# Altium integrated library FPGA.IntLib: 8 symbols (part 2 of 2)
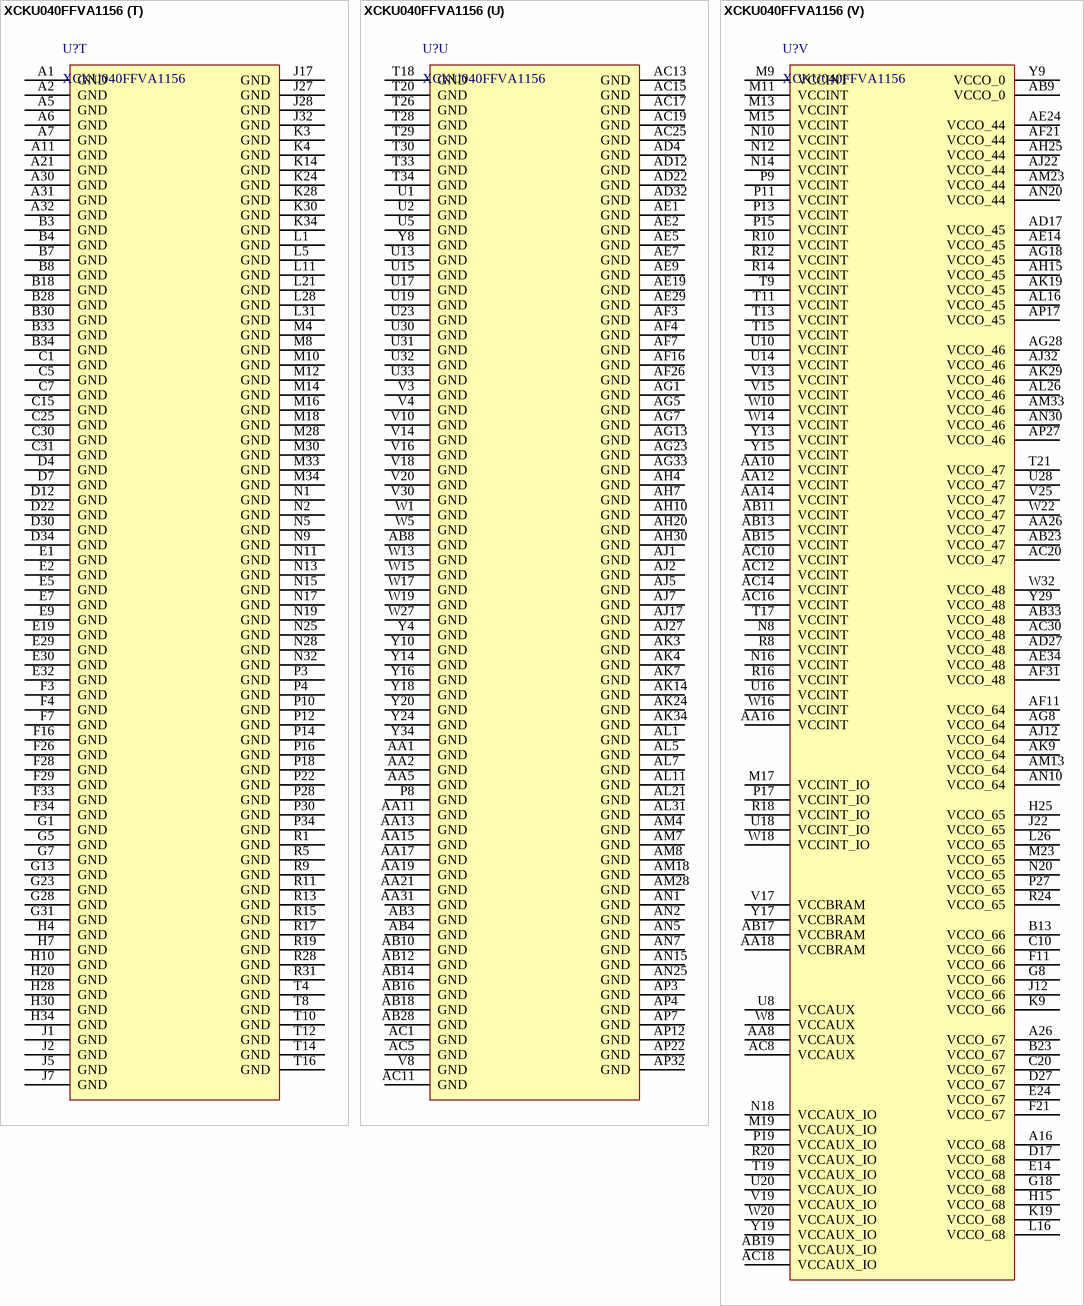
[diagram p17: symbol XCKU040FFVA1156]

## XCKU040FFVA1156
designator U?
footprint FBGA-FFVA1156_L35.0-W35.0-R34-C34-P1.00-TL
part A pins: AA7 D02_0, AA9 CCLK_0, AB7 D01_DIN_0, AC7 D00_MOSI_0, AC9 TCK_0, AD7 VBATT, K7 M0_0, L7 M1_0, M7 M2_0, N7 DONE_0, P7 POR_OVERRIDE, R7 PUDC_B_0, T7 PROGRAM_B_0, U7 RDWR_FCS_B_0, U9 TDO_0, U11 GNDADC, U12 VCCADC, V7 INIT_B_0, V9 TDI_0, V11 VREFN, V12 VP, W7 CFGBVS_0, W9 TMS_0, W11 VN, W12 VREFP, Y7 D03_0, Y11 DXN, Y12 DXP
part B pins: AD20 IO_L3P_T0L_N4_AD15P_44, AD21 IO_L1P_T0L_N0_DBC_44, AD23 VREF_44, AD24 IO_T0U_N12_VRP_44, AE20 IO_L3N_T0L_N5_AD15N_44, AE21 IO_L1N_T0L_N1_DBC_44, AE22 IO_L5P_T0U_N8_AD14P_44, AE23 IO_L5N_T0U_N9_AD14N_44, AE25 IO_L7P_T1L_N0_QBC_AD13P_44, AE26 IO_L7N_T1L_N1_QBC_AD13N_44, AF20 IO_L2P_T0L_N2_44, AF22 IO_L6P_T0U_N10_AD6P_44, AF23 IO_L8P_T1L_N2_AD5P_44, AF24 IO_L8N_T1L_N3_AD5N_44, AF25 IO_T1U_N12_44, AG20 IO_L2N_T0L_N3_44, AG21 IO_L4P_T0U_N6_DBC_AD7P_44, AG22 IO_L6N_T0U_N11_AD6N_44, AG24 IO_L9P_T1L_N4_AD12P_44, AG25 IO_L9N_T1L_N5_AD12N_44, AH21 IO_L4N_T0U_N7_DBC_AD7N_44, AH22 IO_L12P_T1U_N10_GC_44, AH23 IO_L12N_T1U_N11_GC_44, AH24 IO_L10P_T1U_N6_QBC_AD4P_44, AJ20 IO_L16P_T2U_N6_QBC_AD3P_44, AJ21 IO_L13P_T2L_N0_GC_QBC_44, AJ23 IO_L11P_T1U_N8_GC_44, AJ24 IO_L11N_T1U_N9_GC_44, AJ25 IO_L10N_T1U_N7_QBC_AD4N_44, AK20 IO_L16N_T2U_N7_QBC_AD3N_44, AK21 IO_L13N_T2L_N1_GC_QBC_44, AK22 IO_L14P_T2L_N2_GC_44, AK23 IO_L14N_T2L_N3_GC_44, AK25 IO_T2U_N12_44, AL20 IO_L15P_T2L_N4_AD11P_44, AL22 IO_L17P_T2U_N8_AD10P_44, AL23 IO_L17N_T2U_N9_AD10N_44, AL24 IO_L18P_T2U_N10_AD2P_44, AL25 IO_L18N_T2U_N11_AD2N_44, AM20 IO_L15N_T2L_N5_AD11N_44, AM21 IO_L19P_T3L_N0_DBC_AD9P_44, AM22 IO_L20P_T3L_N2_AD1P_44, AM24 IO_L21P_T3L_N4_AD8P_44, AM25 IO_T3U_N12_44, AN21 IO_L19N_T3L_N1_DBC_AD9N_44, AN22 IO_L20N_T3L_N3_AD1N_44, AN23 IO_L24P_T3U_N10_44, AN24 IO_L21N_T3L_N5_AD8N_44, AP20 IO_L22P_T3U_N6_DBC_AD0P_44, AP21 IO_L22N_T3U_N7_DBC_AD0N_44, AP23 IO_L24N_T3U_N11_44, AP24 IO_L23P_T3U_N8_44, AP25 IO_L23N_T3U_N9_44
part C pins: AD14 IO_T3U_N12_45, AD15 IO_L24N_T3U_N11_45, AD16 IO_L24P_T3U_N10_45, AD18 IO_L19N_T3L_N1_DBC_AD9N_45, AD19 IO_L19P_T3L_N0_DBC_AD9P_45, AE15 IO_L22N_T3U_N7_DBC_AD0N_45, AE16 IO_L22P_T3U_N6_DBC_AD0P_45, AE17 IO_L23P_T3U_N8_45, AE18 IO_L21P_T3L_N4_AD8P_45, AF14 IO_L20N_T3L_N3_AD1N_45, AF15 IO_L20P_T3L_N2_AD1P_45, AF17 IO_L23N_T3U_N9_45, AF18 IO_L21N_T3L_N5_AD8N_45, AF19 VREF_45, AG14 IO_L18N_T2U_N11_AD2N_45, AG15 IO_L18P_T2U_N10_AD2P_45, AG16 IO_L15N_T2L_N5_AD11N_45, AG17 IO_L15P_T2L_N4_AD11P_45, AG19 IO_L17P_T2U_N8_AD10P_45, AH14 IO_T2U_N12_45, AH16 IO_L14P_T2L_N2_GC_45, AH17 IO_L13N_T2L_N1_GC_QBC_45, AH18 IO_L13P_T2L_N0_GC_QBC_45, AH19 IO_L17N_T2U_N9_AD10N_45, AJ14 IO_L16N_T2U_N7_QBC_AD3N_45, AJ15 IO_L16P_T2U_N6_QBC_AD3P_45, AJ16 IO_L14N_T2L_N3_GC_45, AJ18 IO_L11P_T1U_N8_GC_45, AJ19 IO_T1U_N12_45, AK15 IO_L9P_T1L_N4_AD12P_45, AK16 IO_L12N_T1U_N11_GC_45, AK17 IO_L12P_T1U_N10_GC_45, AK18 IO_L11N_T1U_N9_GC_45, AL14 IO_L7P_T1L_N0_QBC_AD13P_45, AL15 IO_L9N_T1L_N5_AD12N_45, AL17 IO_L10N_T1U_N7_QBC_AD4N_45, AL18 IO_L10P_T1U_N6_QBC_AD4P_45, AL19 IO_L8P_T1L_N2_AD5P_45, AM14 IO_L7N_T1L_N1_QBC_AD13N_45, AM15 IO_L5N_T0U_N9_AD14N_45, AM16 IO_L5P_T0U_N8_AD14P_45, AM17 IO_L3P_T0L_N4_AD15P_45, AM19 IO_L8N_T1L_N3_AD5N_45, AN14 IO_L1P_T0L_N0_DBC_45, AN16 IO_L3N_T0L_N5_AD15N_45, AN17 IO_L4N_T0U_N7_DBC_AD7N_45, AN18 IO_L4P_T0U_N6_DBC_AD7P_45, AN19 IO_L2P_T0L_N2_45, AP14 IO_L1N_T0L_N1_DBC_45, AP15 IO_L6N_T0U_N11_AD6N_45, AP16 IO_L6P_T0U_N10_AD6P_45, AP18 IO_L2N_T0L_N3_45, AP19 IO_T0U_N12_VRP_45
part D pins: AG26 IO_T0U_N12_VRP_46, AG27 VREF_46, AH26 IO_L1P_T0L_N0_DBC_46, AH27 IO_L5P_T0U_N8_AD14P_46, AH28 IO_L5N_T0U_N9_AD14N_46, AH29 IO_T2U_N12_46, AH31 IO_L17P_T2U_N8_AD10P_46, AH32 IO_L17N_T2U_N9_AD10N_46, AH33 IO_L16P_T2U_N6_QBC_AD3P_46, AH34 IO_L18P_T2U_N10_AD2P_46, AJ26 IO_L1N_T0L_N1_DBC_46, AJ28 IO_L6P_T0U_N10_AD6P_46, AJ29 IO_L13P_T2L_N0_GC_QBC_46, AJ30 IO_L15P_T2L_N4_AD11P_46, AJ31 IO_L15N_T2L_N5_AD11N_46, AJ33 IO_L16N_T2U_N7_QBC_AD3N_46, AJ34 IO_L18N_T2U_N11_AD2N_46, AK26 IO_L3P_T0L_N4_AD15P_46, AK27 IO_L3N_T0L_N5_AD15N_46, AK28 IO_L6N_T0U_N11_AD6N_46, AK30 IO_L13N_T2L_N1_GC_QBC_46, AK31 IO_L14P_T2L_N2_GC_46, AK32 IO_L14N_T2L_N3_GC_46, AK33 IO_T3U_N12_46, AL27 IO_L4P_T0U_N6_DBC_AD7P_46, AL28 IO_L4N_T0U_N7_DBC_AD7N_46, AL29 IO_L11P_T1U_N8_GC_46, AL30 IO_L12P_T1U_N10_GC_46, AL32 IO_L19P_T3L_N0_DBC_AD9P_46, AL33 IO_L19N_T3L_N1_DBC_AD9N_46, AL34 IO_L24P_T3U_N10_46, AM26 IO_L2P_T0L_N2_46, AM27 IO_L2N_T0L_N3_46, AM29 IO_L11N_T1U_N9_GC_46, AM30 IO_L12N_T1U_N11_GC_46, AM31 IO_T1U_N12_46, AM32 IO_L23P_T3U_N8_46, AM34 IO_L24N_T3U_N11_46, AN26 IO_L7P_T1L_N0_QBC_AD13P_46, AN27 IO_L9P_T1L_N4_AD12P_46, AN28 IO_L9N_T1L_N5_AD12N_46, AN29 IO_L10P_T1U_N6_QBC_AD4P_46, AN31 IO_L21P_T3L_N4_AD8P_46, AN32 IO_L23N_T3U_N9_46, AN33 IO_L20P_T3L_N2_AD1P_46, AN34 IO_L22P_T3U_N6_DBC_AD0P_46, AP26 IO_L7N_T1L_N1_QBC_AD13N_46, AP28 IO_L8P_T1L_N2_AD5P_46, AP29 IO_L8N_T1L_N3_AD5N_46, AP30 IO_L10N_T1U_N7_QBC_AD4N_46, AP31 IO_L21N_T3L_N5_AD8N_46, AP33 IO_L20N_T3L_N3_AD1N_46, AP34 IO_L22N_T3U_N7_DBC_AD0N_46
part E pins: AA20 IO_L9P_T1L_N4_AD12P_47, AA22 IO_L7P_T1L_N0_QBC_AD13P_47, AA23 IO_L11N_T1U_N9_GC_47, AA24 IO_L12P_T1U_N10_GC_47, AA25 IO_L12N_T1U_N11_GC_47, AA27 IO_L5P_T0U_N8_AD14P_47, AA28 IO_T0U_N12_VRP_47, AB20 IO_L9N_T1L_N5_AD12N_47, AB21 IO_L10P_T1U_N6_QBC_AD4P_47, AB22 IO_L7N_T1L_N1_QBC_AD13N_47, AB24 IO_L3P_T0L_N4_AD15P_47, AB25 IO_L6P_T0U_N10_AD6P_47, AB26 IO_L6N_T0U_N11_AD6N_47, AB27 IO_L5N_T0U_N9_AD14N_47, AC21 IO_L10N_T1U_N7_QBC_AD4N_47, AC22 IO_L8P_T1L_N2_AD5P_47, AC23 IO_L8N_T1L_N3_AD5N_47, AC24 IO_L3N_T0L_N5_AD15N_47, AC26 IO_L4P_T0U_N6_DBC_AD7P_47, AC27 IO_L4N_T0U_N7_DBC_AD7N_47, AD25 IO_L2P_T0L_N2_47, AD26 IO_L2N_T0L_N3_47, T22 IO_L17P_T2U_N8_AD10P_47, T23 IO_L17N_T2U_N9_AD10N_47, U21 IO_L15P_T2L_N4_AD11P_47, U22 IO_L15N_T2L_N5_AD11N_47, U24 IO_L20P_T3L_N2_AD1P_47, U25 IO_L20N_T3L_N3_AD1N_47, U26 IO_L22P_T3U_N6_DBC_AD0P_47, U27 IO_L22N_T3U_N7_DBC_AD0N_47, U29 IO_T3U_N12_47, V21 IO_L18P_T2U_N10_AD2P_47, V22 IO_L16P_T2U_N6_QBC_AD3P_47, V23 IO_L16N_T2U_N7_QBC_AD3N_47, V24 VREF_47, V26 IO_L24P_T3U_N10_47, V27 IO_L19P_T3L_N0_DBC_AD9P_47, V28 IO_L19N_T3L_N1_DBC_AD9N_47, V29 IO_L23P_T3U_N8_47, W21 IO_L18N_T2U_N11_AD2N_47, W23 IO_L13P_T2L_N0_GC_QBC_47, W24 IO_L13N_T2L_N1_GC_QBC_47, W25 IO_L14P_T2L_N2_GC_47, W26 IO_L24N_T3U_N11_47, W28 IO_L21P_T3L_N4_AD8P_47, W29 IO_L23N_T3U_N9_47, Y21 IO_T2U_N12_47, Y22 IO_T1U_N12_47, Y23 IO_L11P_T1U_N8_GC_47, Y25 IO_L14N_T2L_N3_GC_47, Y26 IO_L1P_T0L_N0_DBC_47, Y27 IO_L1N_T0L_N1_DBC_47, Y28 IO_L21N_T3L_N5_AD8N_47
part F pins: AA29 IO_L16P_T2U_N6_QBC_AD3P_48, AA30 VREF_48, AA32 IO_L13P_T2L_N0_GC_QBC_48, AA33 IO_T2U_N12_48, AA34 IO_L17P_T2U_N8_AD10P_48, AB29 IO_L16N_T2U_N7_QBC_AD3N_48, AB30 IO_L14P_T2L_N2_GC_48, AB31 IO_L14N_T2L_N3_GC_48, AB32 IO_L13N_T2L_N1_GC_QBC_48, AB34 IO_L17N_T2U_N9_AD10N_48, AC28 IO_L3P_T0L_N4_AD15P_48, AC29 IO_T0U_N12_VRP_48, AC31 IO_L12P_T1U_N10_GC_48, AC32 IO_L12N_T1U_N11_GC_48, AC33 IO_L18P_T2U_N10_AD2P_48, AC34 IO_L15P_T2L_N4_AD11P_48, AD28 IO_L3N_T0L_N5_AD15N_48, AD29 IO_L5P_T0U_N8_AD14P_48, AD30 IO_L11P_T1U_N8_GC_48, AD31 IO_L11N_T1U_N9_GC_48, AD33 IO_L18N_T2U_N11_AD2N_48, AD34 IO_L15N_T2L_N5_AD11N_48, AE27 IO_L1P_T0L_N0_DBC_48, AE28 IO_L2P_T0L_N2_48, AE30 IO_L5N_T0U_N9_AD14N_48, AE31 IO_T1U_N12_48, AE32 IO_L9P_T1L_N4_AD12P_48, AE33 IO_L10P_T1U_N6_QBC_AD4P_48, AF27 IO_L1N_T0L_N1_DBC_48, AF28 IO_L2N_T0L_N3_48, AF29 IO_L4P_T0U_N6_DBC_AD7P_48, AF30 IO_L6P_T0U_N10_AD6P_48, AF32 IO_L9N_T1L_N5_AD12N_48, AF33 IO_L8P_T1L_N2_AD5P_48, AF34 IO_L10N_T1U_N7_QBC_AD4N_48, AG29 IO_L4N_T0U_N7_DBC_AD7N_48, AG30 IO_L6N_T0U_N11_AD6N_48, AG31 IO_L7P_T1L_N0_QBC_AD13P_48, AG32 IO_L7N_T1L_N1_QBC_AD13N_48, AG34 IO_L8N_T1L_N3_AD5N_48, U34 IO_L23P_T3U_N8_48, V31 IO_L24P_T3U_N10_48, V32 IO_T3U_N12_48, V33 IO_L21P_T3L_N4_AD8P_48, V34 IO_L23N_T3U_N9_48, W30 IO_L20P_T3L_N2_AD1P_48, W31 IO_L24N_T3U_N11_48, W33 IO_L19P_T3L_N0_DBC_AD9P_48, W34 IO_L21N_T3L_N5_AD8N_48, Y30 IO_L20N_T3L_N3_AD1N_48, Y31 IO_L22P_T3U_N6_DBC_AD0P_48, Y32 IO_L22N_T3U_N7_DBC_AD0N_48, Y33 IO_L19N_T3L_N1_DBC_AD9N_48
part G pins: A8 IO_T0U_N12_VRP_66, A9 IO_L2N_T0L_N3_66, A10 IO_L4N_T0U_N7_DBC_AD7N_66, A12 IO_L23N_T3U_N9_66, A13 IO_L23P_T3U_N8_66, B9 IO_L2P_T0L_N2_66, B10 IO_L4P_T0U_N6_DBC_AD7P_66, B11 IO_L21N_T3L_N5_AD8N_66, B12 IO_L20N_T3L_N3_AD1N_66, C8 IO_L3N_T0L_N5_AD15N_66, C9 IO_L5N_T0U_N9_AD14N_66, C11 IO_L21P_T3L_N4_AD8P_66, C12 IO_L20P_T3L_N2_AD1P_66, C13 IO_L24N_T3U_N11_66, D8 IO_L3P_T0L_N4_AD15P_66, D9 IO_L5P_T0U_N8_AD14P_66, D10 IO_L6N_T0U_N11_AD6N_66, D11 IO_L19N_T3L_N1_DBC_AD9N_66, D13 IO_L24P_T3U_N10_66, E8 IO_L1N_T0L_N1_DBC_66, E10 IO_L6P_T0U_N10_AD6P_66, E11 IO_L19P_T3L_N0_DBC_AD9P_66, E12 IO_T3U_N12_66, E13 IO_L22N_T3U_N7_DBC_AD0N_66, F8 IO_L1P_T0L_N0_DBC_66, F9 IO_L11N_T1U_N9_GC_66, F10 IO_L12N_T1U_N11_GC_66, F12 IO_T2U_N12_66, F13 IO_L22P_T3U_N6_DBC_AD0P_66, G9 IO_L11P_T1U_N8_GC_66, G10 IO_L12P_T1U_N10_GC_66, G11 IO_L13N_T2L_N1_GC_QBC_66, G12 IO_L14N_T2L_N3_GC_66, H8 IO_L9N_T1L_N5_AD12N_66, H9 IO_L8N_T1L_N3_AD5N_66, H11 IO_L13P_T2L_N0_GC_QBC_66, H12 IO_L14P_T2L_N2_GC_66, H13 IO_L18N_T2U_N11_AD2N_66, J8 IO_L9P_T1L_N4_AD12P_66, J9 IO_L8P_T1L_N2_AD5P_66, J10 IO_L10N_T1U_N7_QBC_AD4N_66, J11 IO_L15N_T2L_N5_AD11N_66, J13 IO_L18P_T2U_N10_AD2P_66, K8 IO_L7N_T1L_N1_QBC_AD13N_66, K10 IO_L10P_T1U_N6_QBC_AD4P_66, K11 IO_L15P_T2L_N4_AD11P_66, K12 IO_L17N_T2U_N9_AD10N_66, K13 IO_L16N_T2U_N7_QBC_AD3N_66, L8 IO_L7P_T1L_N0_QBC_AD13P_66, L9 IO_T1U_N12_66, L10 VREF_66, L12 IO_L17P_T2U_N8_AD10P_66, L13 IO_L16P_T2U_N6_QBC_AD3P_66
part H pins: A20 IO_L17N_T2U_N9_AD10N_67, A22 IO_T2U_N12_67, A23 IO_T1U_N12_67, A24 IO_L10N_T1U_N7_QBC_AD4N_67, A25 IO_L8N_T1L_N3_AD5N_67, A27 IO_L6P_T0U_N10_AD6P_67, A28 IO_L6N_T0U_N11_AD6N_67, A29 IO_L4N_T0U_N7_DBC_AD7N_67, B20 IO_L17P_T2U_N8_AD10P_67, B21 IO_L15P_T2L_N4_AD11P_67, B22 IO_L15N_T2L_N5_AD11N_67, B24 IO_L10P_T1U_N6_QBC_AD4P_67, B25 IO_L8P_T1L_N2_AD5P_67, B26 IO_L9N_T1L_N5_AD12N_67, B27 IO_L2N_T0L_N3_67, B29 IO_L4P_T0U_N6_DBC_AD7P_67, C21 IO_L16P_T2U_N6_QBC_AD3P_67, C22 IO_L16N_T2U_N7_QBC_AD3N_67, C23 IO_L13N_T2L_N1_GC_QBC_67, C24 IO_L12N_T1U_N11_GC_67, C26 IO_L9P_T1L_N4_AD12P_67, C27 IO_L2P_T0L_N2_67, C28 IO_L5N_T0U_N9_AD14N_67, C29 IO_T0U_N12_VRP_67, D20 IO_L18P_T2U_N10_AD2P_67, D21 IO_L18N_T2U_N11_AD2N_67, D23 IO_L13P_T2L_N0_GC_QBC_67, D24 IO_L12P_T1U_N10_GC_67, D25 IO_L11N_T1U_N9_GC_67, D26 IO_L7N_T1L_N1_QBC_AD13N_67, D28 IO_L5P_T0U_N8_AD14P_67, D29 IO_L3N_T0L_N5_AD15N_67, E20 IO_L20P_T3L_N2_AD1P_67, E21 IO_L20N_T3L_N3_AD1N_67, E22 IO_L14P_T2L_N2_GC_67, E23 IO_L14N_T2L_N3_GC_67, E25 IO_L11P_T1U_N8_GC_67, E26 IO_L7P_T1L_N0_QBC_AD13P_67, E27 IO_L1N_T0L_N1_DBC_67, E28 IO_L3P_T0L_N4_AD15P_67, F20 IO_L22N_T3U_N7_DBC_AD0N_67, F22 IO_L23N_T3U_N9_67, F23 IO_L21P_T3L_N4_AD8P_67, F24 IO_L21N_T3L_N5_AD8N_67, F25 IO_L19N_T3L_N1_DBC_AD9N_67, F27 IO_L1P_T0L_N0_DBC_67, G20 IO_L22P_T3U_N6_DBC_AD0P_67, G21 IO_L24N_T3U_N11_67, G22 IO_L23P_T3U_N8_67, G24 IO_L19P_T3L_N0_DBC_AD9P_67, H21 IO_L24P_T3U_N10_67, H22 IO_T3U_N12_67, J20 VREF_67
part I pins: A14 IO_L1N_T0L_N1_DBC_68, A15 IO_L3N_T0L_N5_AD15N_68, A17 IO_T0U_N12_VRP_68, A18 IO_L2N_T0L_N3_68, A19 IO_L2P_T0L_N2_68, B14 IO_L1P_T0L_N0_DBC_68, B15 IO_L3P_T0L_N4_AD15P_68, B16 IO_L5N_T0U_N9_AD14N_68, B17 IO_L5P_T0U_N8_AD14P_68, B19 IO_L4N_T0U_N7_DBC_AD7N_68, C14 IO_L7N_T1L_N1_QBC_AD13N_68, C16 IO_T1U_N12_68, C17 IO_L6N_T0U_N11_AD6N_68, C18 IO_L6P_T0U_N10_AD6P_68, C19 IO_L4P_T0U_N6_DBC_AD7P_68, D14 IO_L7P_T1L_N0_QBC_AD13P_68, D15 IO_L8N_T1L_N3_AD5N_68, D16 IO_L11N_T1U_N9_GC_68, D18 IO_L10N_T1U_N7_QBC_AD4N_68, D19 IO_L10P_T1U_N6_QBC_AD4P_68, E15 IO_L8P_T1L_N2_AD5P_68, E16 IO_L11P_T1U_N8_GC_68, E17 IO_L12N_T1U_N11_GC_68, E18 IO_L12P_T1U_N10_GC_68, F14 IO_L9N_T1L_N5_AD12N_68, F15 IO_L9P_T1L_N4_AD12P_68, F17 IO_L14N_T2L_N3_GC_68, F18 IO_L14P_T2L_N2_GC_68, F19 IO_L16N_T2U_N7_QBC_AD3N_68, G14 IO_L15N_T2L_N5_AD11N_68, G15 IO_L15P_T2L_N4_AD11P_68, G16 IO_L13N_T2L_N1_GC_QBC_68, G17 IO_L13P_T2L_N0_GC_QBC_68, G19 IO_L16P_T2U_N6_QBC_AD3P_68, H14 IO_T2U_N12_68, H16 IO_L17N_T2U_N9_AD10N_68, H17 IO_L17P_T2U_N8_AD10P_68, H18 IO_L18N_T2U_N11_AD2N_68, H19 IO_L18P_T2U_N10_AD2P_68, J14 IO_L19N_T3L_N1_DBC_AD9N_68, J15 IO_L19P_T3L_N0_DBC_AD9P_68, J16 IO_L23N_T3U_N9_68, J18 IO_L22N_T3U_N7_DBC_AD0N_68, J19 IO_L22P_T3U_N6_DBC_AD0P_68, K15 IO_L21N_T3L_N5_AD8N_68, K16 IO_L23P_T3U_N8_68, K17 IO_L20N_T3L_N3_AD1N_68, K18 IO_L20P_T3L_N2_AD1P_68, L14 VREF_68, L15 IO_L21P_T3L_N4_AD8P_68, L17 IO_T3U_N12_68, L18 IO_L24N_T3U_N11_68, L19 IO_L24P_T3U_N10_68
part J pins: AD8 IO_L17N_T2U_N9_AD10N_64, AD9 IO_L17P_T2U_N8_AD10P_64, AD10 IO_L16P_T2U_N6_QBC_AD3P_64, AD11 IO_L10P_T1U_N6_QBC_AD4P_64, AD13 VREF_64, AE8 IO_L15P_T2L_N4_AD11P_64, AE10 IO_L16N_T2U_N7_QBC_AD3N_64, AE11 IO_L10N_T1U_N7_QBC_AD4N_64, AE12 IO_L9P_T1L_N4_AD12P_64, AE13 IO_L7P_T1L_N0_QBC_AD13P_64, AF8 IO_L15N_T2L_N5_AD11N_64, AF9 IO_L14P_T2L_N2_GC_64, AF10 IO_L13P_T2L_N0_GC_QBC_64, AF12 IO_L9N_T1L_N5_AD12N_64, AF13 IO_L7N_T1L_N1_QBC_AD13N_64, AG9 IO_L14N_T2L_N3_GC_64, AG10 IO_L13N_T2L_N1_GC_QBC_64, AG11 IO_L12P_T1U_N10_GC_64, AG12 IO_L11P_T1U_N8_GC_64, AH8 IO_L18N_T2U_N11_AD2N_64, AH9 IO_L18P_T2U_N10_AD2P_64, AH11 IO_L12N_T1U_N11_GC_64, AH12 IO_L11N_T1U_N9_GC_64, AH13 IO_L8P_T1L_N2_AD5P_64, AJ8 IO_L23N_T3U_N9_64, AJ9 IO_L23P_T3U_N8_64, AJ10 IO_T2U_N12_64, AJ11 IO_T1U_N12_64, AJ13 IO_L8N_T1L_N3_AD5N_64, AK8 IO_L24P_T3U_N10_64, AK10 IO_L21P_T3L_N4_AD8P_64, AK11 IO_T0U_N12_64, AK12 IO_L5P_T0U_N8_AD14P_64, AK13 IO_L6P_T0U_N10_AD6P_64, AL8 IO_L24N_T3U_N11_64, AL9 IO_L21N_T3L_N5_AD8N_64, AL10 IO_L19P_T3L_N0_DBC_AD9P_64, AL12 IO_L5N_T0U_N9_AD14N_64, AL13 IO_L6N_T0U_N11_AD6N_64, AM9 IO_T3U_N12_64, AM10 IO_L19N_T3L_N1_DBC_AD9N_64, AM11 IO_L3P_T0L_N4_AD15P_64, AM12 IO_L4P_T0U_N6_DBC_AD7P_64, AN8 IO_L22P_T3U_N6_DBC_AD0P_64, AN9 IO_L20P_T3L_N2_AD1P_64, AN11 IO_L3N_T0L_N5_AD15N_64, AN12 IO_L4N_T0U_N7_DBC_AD7N_64, AN13 IO_L2P_T0L_N2_64, AP8 IO_L22N_T3U_N7_DBC_AD0N_64, AP9 IO_L20N_T3L_N3_AD1N_64, AP10 IO_L1N_T0L_N1_DBC_64, AP11 IO_L1P_T0L_N0_DBC_64, AP13 IO_L2N_T0L_N3_64
part K pins: G25 IO_L2P_T0L_N2_FOE_B_65, G26 IO_L2N_T0L_N3_FWE_FCS2_B_65, G27 IO_L1N_T0L_N1_DBC_RS1_65, H23 IO_T0U_N12_A28_65, H24 IO_L6N_T0U_N11_AD6N_A21_65, H26 IO_L5N_T0U_N9_AD14N_A23_65, H27 IO_L1P_T0L_N0_DBC_RS0_65, J21 VREF_65, J23 IO_L6P_T0U_N10_AD6P_A20_65, J24 IO_L4P_T0U_N6_DBC_AD7P_A24_65, J25 IO_L4N_T0U_N7_DBC_AD7N_A25_65, J26 IO_L5P_T0U_N8_AD14P_A22_65, K20 IO_L24P_T3U_N10_EMCCLK_65, K21 IO_L24N_T3U_N11_DOUT_CSO_B_65, K22 IO_T3U_N12_PERSTN0_65, K23 IO_L10N_T1U_N7_QBC_AD4N_A13_D29_65, K25 IO_L9N_T1L_N5_AD12N_A15_D31_65, K26 IO_L3P_T0L_N4_AD15P_A26_65, K27 IO_L3N_T0L_N5_AD15N_A27_65, L20 IO_L22N_T3U_N7_DBC_AD0N_D05_65, L22 IO_L10P_T1U_N6_QBC_AD4P_A12_D28_65, L23 IO_L8P_T1L_N2_AD5P_A16_65, L24 IO_L8N_T1L_N3_AD5N_A17_65, L25 IO_L9P_T1L_N4_AD12P_A14_D30_65, L27 IO_L7N_T1L_N1_QBC_AD13N_A19_65, M20 IO_L22P_T3U_N6_DBC_AD0P_D04_65, M21 IO_L23N_T3U_N9_I2C_SDA_65, M22 IO_L19N_T3L_N1_DBC_AD9N_D11_65, M24 IO_L12N_T1U_N11_GC_A09_D25_65, M25 IO_L11P_T1U_N8_GC_A10_D26_65, M26 IO_L11N_T1U_N9_GC_A11_D27_65, M27 IO_L7P_T1L_N0_QBC_AD13P_A18_65, N21 IO_L23P_T3U_N8_I2C_SCLK_65, N22 IO_L19P_T3L_N0_DBC_AD9P_D10_65, N23 IO_T1U_N12_PERSTN1_65, N24 IO_L12P_T1U_N10_GC_A08_D24_65, N26 IO_L13N_T2L_N1_GC_QBC_A07_D23_65, N27 IO_T2U_N12_CSI_ADV_B_65, P20 IO_L20P_T3L_N2_AD1P_D08_65, P21 IO_L20N_T3L_N3_AD1N_D09_65, P23 IO_L18N_T2U_N11_AD2N_D13_65, P24 IO_L14P_T2L_N2_GC_A04_D20_65, P25 IO_L14N_T2L_N3_GC_A05_D21_65, P26 IO_L13P_T2L_N0_GC_QBC_A06_D22_65, R21 IO_L21P_T3L_N4_AD8P_D06_65, R22 IO_L21N_T3L_N5_AD8N_D07_65, R23 IO_L18P_T2U_N10_AD2P_D12_65, R25 IO_L17P_T2U_N8_AD10P_D14_65, R26 IO_L17N_T2U_N9_AD10N_D15_65, R27 IO_L15N_T2L_N5_AD11N_A03_D19_65, T24 IO_L16P_T2U_N6_QBC_AD3P_A00_D16_65, T25 IO_L16N_T2U_N7_QBC_AD3N_A01_D17_65, T27 IO_L15P_T2L_N4_AD11P_A02_D18_65
part L pins: J33 NC(MGTHRXP3_127), J34 NC(MGTHRXN3_127), K31 NC(MGTHTXP3_127), K32 NC(MGTHTXN3_127), L33 NC(MGTHRXP2_127), L34 NC(MGTHRXN2_127), M31 NC(MGTHTXP2_127), M32 NC(MGTHTXN2_127), N29 NC(MGTREFCLK1P_127), N30 NC(MGTREFCLK1N_127), N33 NC(MGTHRXP1_127), N34 NC(MGTHRXN1_127), P31 NC(MGTHTXP1_127), P32 NC(MGTHTXN1_127), R29 NC(MGTREFCLK0P_127), R30 NC(MGTREFCLK0N_127), R33 NC(MGTHRXP0_127), R34 NC(MGTHRXN0_127), T31 NC(MGTHTXP0_127), T32 NC(MGTHTXN0_127)
part M pins: B31 NC(MGTHTXP3_128), B32 NC(MGTHTXN3_128), C33 NC(MGTHRXP3_128), C34 NC(MGTHRXN3_128), D31 NC(MGTHTXP2_128), D32 NC(MGTHTXN2_128), E33 NC(MGTHRXP2_128), E34 NC(MGTHRXN2_128), F31 NC(MGTHRXP1_128), F32 NC(MGTHRXN1_128), G29 NC(MGTHTXP1_128), G30 NC(MGTHTXN1_128), G33 NC(MGTHRXP0_128), G34 NC(MGTHRXN0_128), H31 NC(MGTHTXP0_128), H32 NC(MGTHTXN0_128), J29 NC(MGTREFCLK1P_128), J30 NC(MGTREFCLK1N_128), L29 NC(MGTREFCLK0P_128), L30 NC(MGTREFCLK0N_128)
part N pins: AD5 MGTREFCLK1N_224, AD6 MGTREFCLK1P_224, AF5 MGTREFCLK0N_224, AF6 MGTREFCLK0P_224, AJ3 MGTHRXN3_224, AJ4 MGTHRXP3_224, AK1 MGTHRXN2_224, AK2 MGTHRXP2_224, AK5 MGTHTXN3_224, AK6 MGTHTXP3_224, AL3 MGTHTXN2_224, AL4 MGTHTXP2_224, AM1 MGTHRXN1_224, AM2 MGTHRXP1_224, AM5 MGTHTXN1_224, AM6 MGTHTXP1_224, AN3 MGTHTXN0_224, AN4 MGTHTXP0_224, AP1 MGTHRXN0_224, AP2 MGTHRXP0_224
part O pins: AB1 MGTHRXN3_225, AB2 MGTHRXP3_225, AB5 MGTREFCLK0N_225, AB6 MGTREFCLK0P_225, AC3 MGTHTXN3_225, AC4 MGTHTXP3_225, AD1 MGTHRXN2_225, AD2 MGTHRXP2_225, AE3 MGTHTXN2_225, AE4 MGTHTXP2_225, AF1 MGTHRXN1_225, AF2 MGTHRXP1_225, AG3 MGTHTXN1_225, AG4 MGTHTXP1_225, AH1 MGTHRXN0_225, AH2 MGTHRXP0_225, AH5 MGTHTXN0_225, AH6 MGTHTXP0_225, Y5 MGTREFCLK1N_225, Y6 MGTREFCLK1P_225
part P pins: AA3 MGTHTXN0_226, AA4 MGTHTXP0_226, P1 MGTHRXN3_226, P2 MGTHRXP3_226, R3 MGTHTXN3_226, R4 MGTHTXP3_226, T1 MGTHRXN2_226, T2 MGTHRXP2_226, T5 MGTREFCLK1N_226, T6 MGTREFCLK1P_226, U3 MGTHTXN2_226, U4 MGTHTXP2_226, V1 MGTHRXN1_226, V2 MGTHRXP1_226, V5 MGTREFCLK0N_226, V6 MGTREFCLK0P_226, W3 MGTHTXN1_226, W4 MGTHTXP1_226, Y1 MGTHRXN0_226, Y2 MGTHRXP0_226
part Q pins: F1 MGTHRXN3_227, F2 MGTHRXP3_227, G3 MGTHTXN3_227, G4 MGTHTXP3_227, H1 MGTHRXN2_227, H2 MGTHRXP2_227, J3 MGTHTXN2_227, J4 MGTHTXP2_227, K1 MGTHRXN1_227, K2 MGTHRXP1_227, L3 MGTHTXN1_227, L4 MGTHTXP1_227, M1 MGTHRXN0_227, M2 MGTHRXP0_227, M5 MGTREFCLK1N_227, M6 MGTREFCLK1P_227, N3 MGTHTXN0_227, N4 MGTHTXP0_227, P5 MGTREFCLK0N_227, P6 MGTREFCLK0P_227
part R pins: A3 MGTHRXN3_228, A4 MGTHRXP3_228, B1 MGTHRXN2_228, B2 MGTHRXP2_228, B5 MGTHTXN3_228, B6 MGTHTXP3_228, C3 MGTHTXN2_228, C4 MGTHTXP2_228, D1 MGTHRXN1_228, D2 MGTHRXP1_228, D5 MGTHTXN1_228, D6 MGTHTXP1_228, E3 MGTHRXN0_228, E4 MGTHRXP0_228, F5 MGTHTXN0_228, F6 MGTHTXP0_228, H5 MGTREFCLK1N_228, H6 MGTREFCLK1P_228, K5 MGTREFCLK0N_228, K6 MGTREFCLK0P_228
part S pins: A33 NC(MGTAVTTRCAL_L), A34 NC(MGTRREF_L), AA6 MGTVCCAUX_R, AC2 MGTAVTT_R, AC6 MGTAVCC_R, AD3 MGTAVTT_R, AE6 MGTAVCC_R, AG2 MGTAVTT_R, AG6 MGTAVCC_R, AH3 MGTAVTT_R, AJ6 MGTAVCC_R, AL2 MGTAVTT_R, AL6 MGTAVCC_R, AM3 MGTAVTT_R, AN6 MGTAVCC_R, AP5 MGTRREF_R, AP6 MGTAVTTRCAL_R, C2 MGTAVTT_R, C6 MGTAVCC_R, C32 MGTAVTT_L, D3 MGTAVTT_R, D33 MGTAVTT_L, E6 MGTAVCC_R, E31 MGTAVCC_L, F30 MGTAVCC_L, G2 MGTAVTT_R, G6 MGTAVCC_R, G32 MGTAVTT_L, H3 MGTAVTT_R, H29 MGTAVCC_L, H33 MGTAVTT_L, J6 MGTAVCC_R, J31 MGTAVCC_L, K29 MGTVCCAUX_L, K33 MGTAVTT_L, L2 MGTAVTT_R, L6 MGTAVCC_R, L32 MGTAVTT_L, M3 MGTAVTT_R, M29 MGTVCCAUX_L, N6 MGTAVCC_R, N31 MGTAVCC_L, P29 MGTAVCC_L, P33 MGTAVTT_L, R2 MGTAVTT_R, R6 MGTVCCAUX_R, R32 MGTAVTT_L, T3 MGTAVTT_R, U6 MGTAVCC_R, W2 MGTAVTT_R, W6 MGTAVCC_R, Y3 MGTAVTT_R
part T pins: A1 GND, A2 GND, A5 GND, A6 GND, A7 GND, A11 GND, A21 GND, A30 GND, A31 GND, A32 GND, B3 GND, B4 GND, B7 GND, B8 GND, B18 GND, B28 GND, B30 GND, B33 GND, B34 GND, C1 GND, C5 GND, C7 GND, C15 GND, C25 GND, C30 GND, C31 GND, D4 GND, D7 GND, D12 GND, D22 GND, D30 GND, D34 GND, E1 GND, E2 GND, E5 GND, E7 GND, E9 GND, E19 GND, E29 GND, E30 GND, E32 GND, F3 GND, F4 GND, F7 GND, F16 GND, F26 GND, F28 GND, F29 GND, F33 GND, F34 GND, G1 GND, G5 GND, G7 GND, G13 GND, G23 GND, G28 GND, G31 GND, H4 GND, H7 GND, H10 GND, H20 GND, H28 GND, H30 GND, H34 GND, J1 GND, J2 GND, J5 GND, J7 GND, J17 GND, J27 GND, J28 GND, J32 GND, K3 GND, K4 GND, K14 GND, K24 GND, K28 GND, K30 GND, K34 GND, L1 GND, L5 GND, L11 GND, L21 GND, L28 GND, L31 GND, M4 GND, M8 GND, M10 GND, M12 GND, M14 GND, M16 GND, M18 GND, M28 GND, M30 GND, M33 GND, M34 GND, N1 GND, N2 GND, N5 GND, N9 GND, N11 GND, N13 GND, N15 GND, N17 GND, N19 GND, N25 GND, N28 GND, N32 GND, P3 GND, P4 GND, P10 GND, P12 GND, P14 GND, P16 GND, P18 GND, P22 GND, P28 GND, P30 GND, P34 GND, R1 GND, R5 GND, R9 GND, R11 GND, R13 GND, R15 GND, R17 GND, R19 GND, R28 GND, R31 GND, T4 GND, T8 GND, T10 GND, T12 GND, T14 GND, T16 GND
part U pins: AA1 GND, AA2 GND, AA5 GND, AA11 GND, AA13 GND, AA15 GND, AA17 GND, AA19 GND, AA21 GND, AA31 GND, AB3 GND, AB4 GND, AB8 GND, AB10 GND, AB12 GND, AB14 GND, AB16 GND, AB18 GND, AB28 GND, AC1 GND, AC5 GND, AC11 GND, AC13 GND, AC15 GND, AC17 GND, AC19 GND, AC25 GND, AD4 GND, AD12 GND, AD22 GND, AD32 GND, AE1 GND, AE2 GND, AE5 GND, AE7 GND, AE9 GND, AE19 GND, AE29 GND, AF3 GND, AF4 GND, AF7 GND, AF16 GND, AF26 GND, AG1 GND, AG5 GND, AG7 GND, AG13 GND, AG23 GND, AG33 GND, AH4 GND, AH7 GND, AH10 GND, AH20 GND, AH30 GND, AJ1 GND, AJ2 GND, AJ5 GND, AJ7 GND, AJ17 GND, AJ27 GND, AK3 GND, AK4 GND, AK7 GND, AK14 GND, AK24 GND, AK34 GND, AL1 GND, AL5 GND, AL7 GND, AL11 GND, AL21 GND, AL31 GND, AM4 GND, AM7 GND, AM8 GND, AM18 GND, AM28 GND, AN1 GND, AN2 GND, AN5 GND, AN7 GND, AN15 GND, AN25 GND, AP3 GND, AP4 GND, AP7 GND, AP12 GND, AP22 GND, AP32 GND, P8 GND, T18 GND, T20 GND, T26 GND, T28 GND, T29 GND, T30 GND, T33 GND, T34 GND, U1 GND, U2 GND, U5 GND, U13 GND, U15 GND, U17 GND, U19 GND, U23 GND, U30 GND, U31 GND, U32 GND, U33 GND, V3 GND, V4 GND, V8 GND, V10 GND, V14 GND, V16 GND, V18 GND, V20 GND, V30 GND, W1 GND, W5 GND, W13 GND, W15 GND, W17 GND, W19 GND, W27 GND, Y4 GND, Y8 GND, Y10 GND, Y14 GND, Y16 GND, Y18 GND, Y20 GND, Y24 GND, Y34 GND
part V pins: A16 VCCO_68, A26 VCCO_67, AA8 VCCAUX, AA10 VCCINT, AA12 VCCINT, AA14 VCCINT, AA16 VCCINT, AA18 VCCBRAM, AA26 VCCO_47, AB9 VCCO_0, AB11 VCCINT, AB13 VCCINT, AB15 VCCINT, AB17 VCCBRAM, AB19 VCCAUX_IO, AB23 VCCO_47, AB33 VCCO_48, AC8 VCCAUX, AC10 VCCINT, AC12 VCCINT, AC14 VCCINT, AC16 VCCINT, AC18 VCCAUX_IO, AC20 VCCO_47, AC30 VCCO_48, AD17 VCCO_45, AD27 VCCO_48, AE14 VCCO_45, AE24 VCCO_44, AE34 VCCO_48, AF11 VCCO_64, AF21 VCCO_44, AF31 VCCO_48, AG8 VCCO_64, AG18 VCCO_45, AG28 VCCO_46, AH15 VCCO_45, AH25 VCCO_44, AJ12 VCCO_64, AJ22 VCCO_44, AJ32 VCCO_46, AK9 VCCO_64, AK19 VCCO_45, AK29 VCCO_46, AL16 VCCO_45, AL26 VCCO_46, AM13 VCCO_64, AM23 VCCO_44, AM33 VCCO_46, AN10 VCCO_64, AN20 VCCO_44, AN30 VCCO_46, AP17 VCCO_45, AP27 VCCO_46, B13 VCCO_66, B23 VCCO_67, C10 VCCO_66, C20 VCCO_67, D17 VCCO_68, D27 VCCO_67, E14 VCCO_68, E24 VCCO_67, F11 VCCO_66, F21 VCCO_67, G8 VCCO_66, G18 VCCO_68, H15 VCCO_68, H25 VCCO_65, J12 VCCO_66, J22 VCCO_65, K9 VCCO_66, K19 VCCO_68, L16 VCCO_68, L26 VCCO_65, M9 VCCINT, M11 VCCINT, M13 VCCINT, M15 VCCINT, M17 VCCINT_IO, M19 VCCAUX_IO, M23 VCCO_65, N8 VCCINT, N10 VCCINT, N12 VCCINT, N14 VCCINT, N16 VCCINT, N18 VCCAUX_IO, N20 VCCO_65, P9 VCCINT, P11 VCCINT, P13 VCCINT, P15 VCCINT, P17 VCCINT_IO, P19 VCCAUX_IO, P27 VCCO_65, R8 VCCINT, R10 VCCINT, R12 VCCINT, R14 VCCINT, R16 VCCINT, R18 VCCINT_IO, R20 VCCAUX_IO, R24 VCCO_65, T9 VCCINT, T11 VCCINT, T13 VCCINT, T15 VCCINT, T17 VCCINT, T19 VCCAUX_IO, T21 VCCO_47, U8 VCCAUX, U10 VCCINT, U14 VCCINT, U16 VCCINT, U18 VCCINT_IO, U20 VCCAUX_IO, U28 VCCO_47, V13 VCCINT, V15 VCCINT, V17 VCCBRAM, V19 VCCAUX_IO, V25 VCCO_47, W8 VCCAUX, W10 VCCINT, W14 VCCINT, W16 VCCINT, W18 VCCINT_IO, W20 VCCAUX_IO, W22 VCCO_47, W32 VCCO_48, Y9 VCCO_0, Y13 VCCINT, Y15 VCCINT, Y17 VCCBRAM, Y19 VCCAUX_IO, Y29 VCCO_48
part A text: BANK 0
part B text: BANK 44 HP
part C text: BANK 45 HP
part D text: BANK 46 HP
part E text: BANK 47 HP
part F text: BANK 48 HP
part G text: BANK 66 HP
part H text: BANK 67 HP
part I text: BANK 68 HP
part J text: BANK 64 HR
part K text: BANK 65 HR
part L text: BANK 127 (NC FOR 040)
part M text: BANK 128 (NC FOR 040)
part N text: BANK 224
part O text: BANK 225
part P text: BANK 226
part Q text: BANK 227
part R text: BANK 228